# EAGLE library part AUDIO-AMP-STEREO-TPA2016 (library FlashPCB_ICs)
TPA2016 - [DESCRIPTION] Technical Specifications: Amplifier IC 2-Channel (Stereo) Class D 20-QFN (4x4) Output Type: 2-Channel (Stereo) Max Output Power: 2.8W x2 @ 4 Ohm Supply Voltage: 2.5V~5.5V Features: Differential Inputs, I2C, Short-Circuit and Thermal protection, Shutdown, Volume Control Component Search: TPA2016 <https://www.flashpcb.com/components> Datasheet: TPA2016D2 2.8-W/Ch Stereo Class-D Audio Amplifier With Dynamic Range Compression and Automatic Gain Control datasheet (Rev. E) <https://www.ti.com/lit/ds/symlink/tpa2016d2.pdf?HQS=dis-dk-null-digikeymode-dsf-pf-null-wwe&ts=1685560732392&ref_url=https%253A%252F%252Fwww.ti.com%252Fgeneral%252Fdocs%252Fsuppproductinfo.tsp%253FdistId%253D10%2526gotoUrl%253Dhttps%253A%252F%252Fwww.ti.com%252Flit%252Fgpn%252Ftpa2016d2>
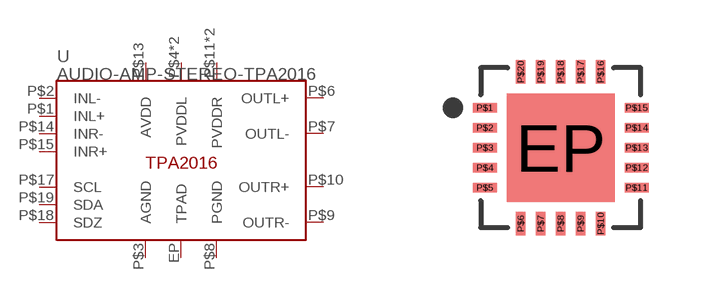
[diagram p22: symbol with the pads of 20-WQFN(4X4); footprint 20-WQFN(4X4)]

Designator prefix U

## AUDIO-AMP-STEREO-TPA2016RTJ  [20-WQFN(4X4)]
EP  TPAD
P$1  INL+
P$2  INL-
P$3  AGND
P$4  PVDDL
P$5  PVDDL
P$6  OUTL+
P$7  OUTL-
P$8  PGND
P$9  OUTR-
P$10  OUTR+
P$11  PVDDR
P$12  PVDDR
P$13  AVDD
P$14  INR-
P$15  INR+
P$17  SCL
P$18  SDZ
P$19  SDA

## Footprint 20-WQFN(4X4) (pad centres in mm)
smd 2.7 x 2.7: EP 0,0
smd 0.6 x 0.24: P$1 -1.9,1; P$2 -1.9,0.5; P$3 -1.9,0; P$4 -1.9,-0.5; P$5 -1.9,-1; P$11 1.9,-1; P$12 1.9,-0.5; P$13 1.9,0; P$14 1.9,0.5; P$15 1.9,1
smd 0.24 x 0.6: P$6 -1,-1.9; P$7 -0.5,-1.9; P$8 0,-1.9; P$9 0.5,-1.9; P$10 1,-1.9; P$16 1,1.9; P$17 0.5,1.9; P$18 0,1.9; P$19 -0.5,1.9; P$20 -1,1.9